# Altium schematic symbol library Active.SchLib: 1 symbol
Pins are listed as number, name and electrical type; pins without a type are passive.

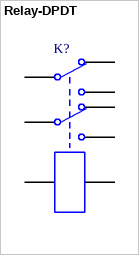
[diagram p0: symbol Relay-DPDT]

## Relay-DPDT
designator K?
Dual-Pole Dual-Throw Relay; Published: 24-Mar-1999; LatestRevisionDate: 17-Jul-2002; LatestRevisionNote: Re-released for DXP Platform.; PackageReference: DIP-P8; Publisher: Altium Limited; PackageDescription: Relay; 8 Leads
footprint EC2NU
pins: 1, 3, 4, 5, 8, 9, 10, 12